# EAGLE library part TDA8950 (library Audio-Power-amlifier V.2.0)
The TDA8950 is a high-efficiency Class D audio power amplifier. The typical output power is 2 ´ 150 W with a speaker load impedance of 4 W. The TDA8950 is available in both HSOP24 and DBS23P power packages. The amplifier operates over a wide supply voltage range from ±12.5 V to ±40 V and features low quiescent current consumption.
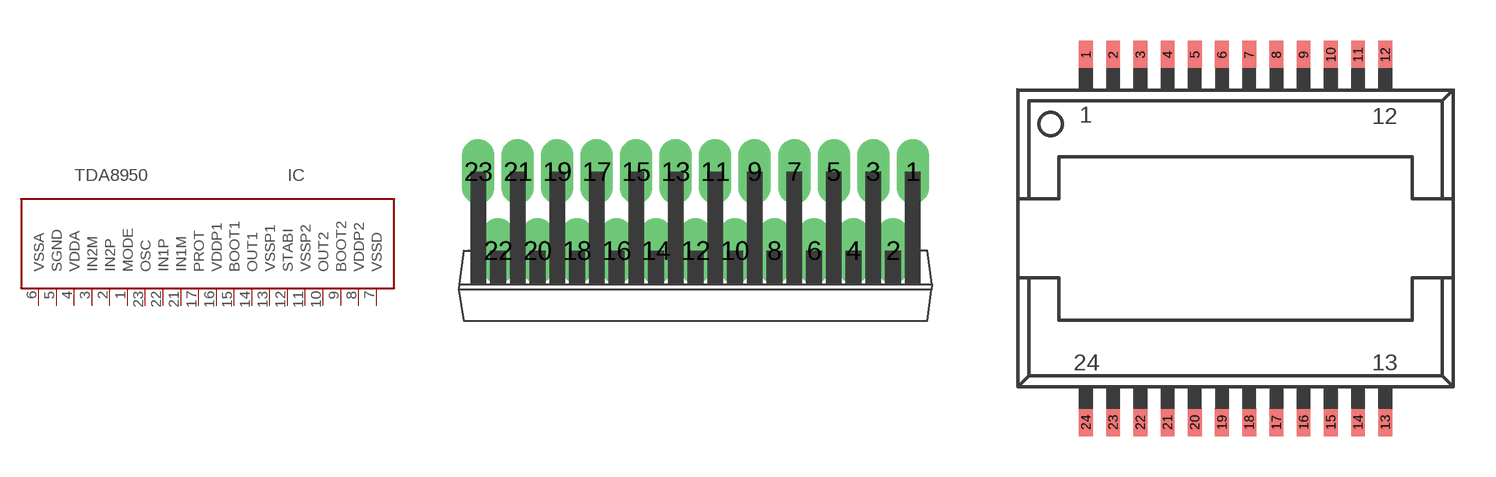
[diagram p148: symbol with the pads of SOT411-1; footprints SOT411-1, SOT566-3]

Designator prefix IC

## TDA8950TDA8950J  [SOT411-1]
1  MODE  in
2  IN2P  in
3  IN2M  in
4  VDDA  pwr
5  SGND  pwr
6  VSSA  pwr
7  VSSD  pwr
8  VDDP2  pwr
9  BOOT2
10  OUT2  out
11  VSSP2
12  STABI
13  VSSP1  pwr
14  OUT1  out
15  BOOT1
16  VDDP1  pwr
17  PROT
21  IN1M  in
22  IN1P  in
23  OSC  in

## TDA8950TDA8950TH  [SOT566-3]
1  VSSA  pwr
2  SGND  pwr
3  VDDA  pwr
4  IN2M  in
5  IN2P  in
6  MODE  in
7  OSC  in
8  IN1P  in
9  IN1M  in
13  PROT
14  VDDP1  pwr
15  BOOT1
16  OUT1  out
17  VSSP1  pwr
18  STABI
20  VSSP2
21  OUT2  out
22  BOOT2
23  VDDP2  pwr
24  VSSD  pwr

## Footprint SOT411-1 (pad centres in mm)
drill 1.4 long: 1 13.97,5.08; 2 12.7,0; 3 11.43,5.08; 4 10.16,0; 5 8.89,5.08; 6 7.62,0; 7 6.35,5.08; 8 5.08,0; 9 3.81,5.08; 10 2.54,0; 11 1.27,5.08; 12 0,0; 13 -1.27,5.08; 14 -2.54,0; 15 -3.81,5.08; 16 -5.08,0; 17 -6.35,5.08; 18 -7.62,0; 19 -8.89,5.08; 20 -10.16,0; 21 -11.43,5.08; 22 -12.7,0; 23 -13.97,5.08

## Footprint SOT566-3 (pad centres in mm)
smd 0.508 x 1.016: 1 -5.5,6.75; 2 -4.5,6.75; 3 -3.5,6.75; 4 -2.5,6.75; 5 -1.5,6.75; 6 -0.5,6.75; 7 0.5,6.75; 8 1.5,6.75; 9 2.5,6.75; 10 3.5,6.75; 11 4.5,6.75; 12 5.5,6.75; 13 5.5,-6.75; 14 4.5,-6.75; 15 3.5,-6.75; 16 2.5,-6.75; 17 1.5,-6.75; 18 0.5,-6.75; 19 -0.5,-6.75; 20 -1.5,-6.75; 21 -2.5,-6.75; 22 -3.5,-6.75; 23 -4.5,-6.75; 24 -5.5,-6.75